# EAGLE library part DUAL_USB_A_FEMALE (library Oles komponentbibliotek)
Dual USB A connector (female)
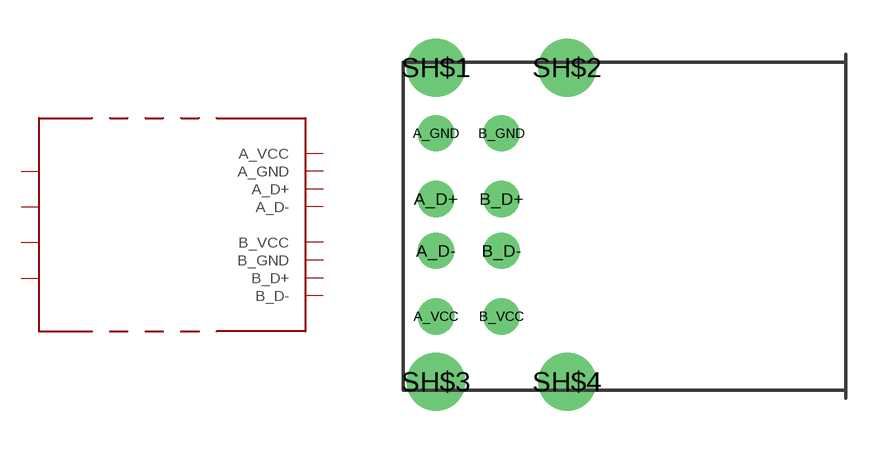
[diagram p35: symbol with the pads of DUAL-USB-A-FEMALE; footprint DUAL-USB-A-FEMALE]

Designator prefix -; gates G$1=DUAL_USB_A_FEMALE G$2=DUAL_USB_A_FEMALE_SHIELD

## DUAL_USB_A_FEMALE  [DUAL-USB-A-FEMALE]
A_D+  G$1:A_D+
A_D-  G$1:A_D-
A_GND  G$1:A_GND  pwr
A_VCC  G$1:A_VCC  pwr
B_D+  G$1:B_D+
B_D-  G$1:B_D-
B_GND  G$1:B_GND  pwr
B_VCC  G$1:B_VCC  pwr
SH$1  G$2:P$1  pwr
SH$2  G$2:P$2  pwr
SH$3  G$2:P$3  pwr
SH$4  G$2:P$4  pwr

## Footprint DUAL-USB-A-FEMALE (pad centres in mm)
Dual USB A connector (female)
drill 0.9: A_D+ -2.54,1.058; A_D- -2.54,-0.953; A_GND -2.54,3.598; A_VCC -2.54,-3.493; B_D+ 0,1.058; B_D- 0,-0.953; B_GND 0,3.598; B_VCC 0,-3.493
drill 1.5: SH$1 -2.54,6.138; SH$2 2.54,6.138; SH$3 -2.54,-6.032; SH$4 2.54,-6.032